# Altium footprint library Antenna.PcbLib: 1 footprints
Each footprint in its own frame and in the unit in brackets; x right, y up, seen from the top. Pads: shape width x height; smd on the part's side, far side on the other; paste and mask are expansions set on the pad; w line width, h text height; cw(c..) or ccw(c..) is an arc to the next point about the centre after c.
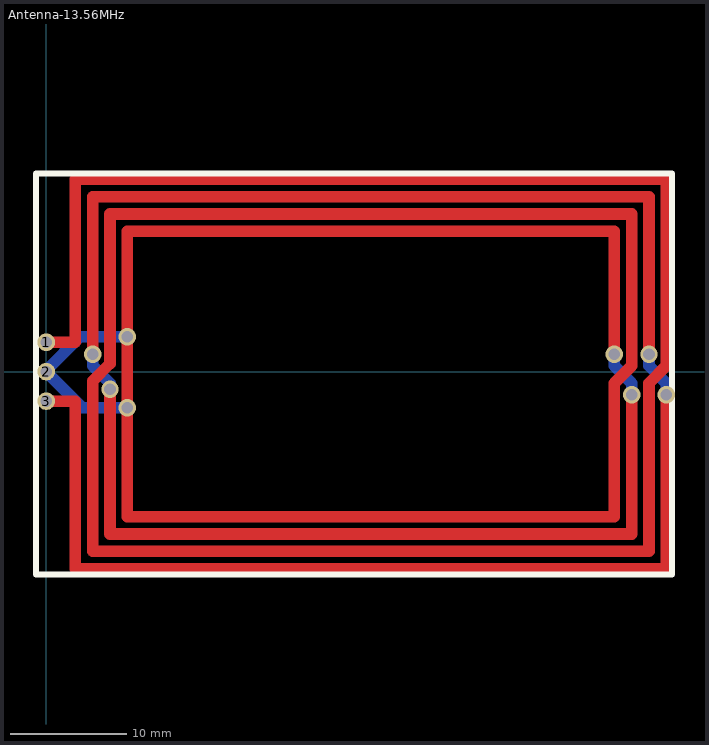
[diagram p0: the footprint, top view; thin cyan lines are the x and y axes]

## Antenna-13.56MHz [mil]
pads (3):
  round 60 hole 40: 1(0,100) 2(0,0) 3(0,-100)
via 157.48,59.06 diameter 59.06 hole 39.37
via 216.54,-59.06 diameter 59.06 hole 39.37
via 2047.24,59.06 diameter 59.06 hole 39.37
via 2106.3,-78.74 diameter 59.06 hole 39.37
via 1929.13,59.06 diameter 59.06 hole 39.37
via 1988.19,-78.74 diameter 59.06 hole 39.37
via 275.59,118.11 diameter 59.06 hole 39.37
via 275.59,-122.05 diameter 59.06 hole 39.37
Top Layer:
  lines w39.37: 0,-100 98.43,-100 98.43,-669.29 2106.3,-669.29 2106.3,-78.74 ; 0,100 98.43,100 98.43,653.54 2106.3,653.54 2106.3,19.69 2047.24,-39.37 2047.24,-118.11 2047.24,-610.24 157.48,-610.24 157.48,-31.5 216.54,27.56 216.54,535.43 1988.19,535.43 1988.19,19.68 1929.13,-39.37 1929.13,-492.13 275.59,-492.13 275.59,476.38 1929.13,476.38 1929.13,59.06 ; 157.48,59.06 157.48,594.49 2047.24,594.49 2047.24,59.06 ; 216.54,-59.06 216.54,-551.18 1988.19,-551.18 1988.19,-78.74
Bottom Layer:
  lines w39.37: 157.48,59.06 157.48,19.69 216.54,-39.37 216.54,-59.06 ; 275.59,-122.05 122.05,-122.05 0,0 0,3.94 114.17,118.11 275.59,118.11 ; 1929.13,59.06 1929.13,19.68 1988.19,-39.37 1988.19,-78.74 ; 2047.24,59.06 2047.24,19.69 2106.3,-39.37 2106.3,-78.74
Top Overlay:
  lines w20: -35.43,-688.98 2125.98,-688.98 2125.98,673.23 -35.43,673.23 -35.43,-688.98